# Altium integrated library LIS2DH12.IntLib: 1 symbol
Pins are listed as number, name and electrical type; pins without a type are passive.

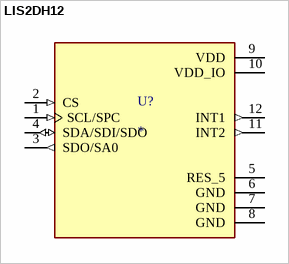
[diagram p0: symbol LIS2DH12]

## LIS2DH12
designator U?
Accelerometer X, Y, Z Axis Â±2g, 4g, 8g, 16g 0.5Hz ~ 672Hz 12-LGA (2x2); MF: STMicroelectronics; MP: LIS2DH12; Value: *; SnapEDA_Link: https://www.snapeda.com/parts/LIS2DH12/STMicroelectronics/view-part/?ref=snap; Check_prices: https://www.snapeda.com/parts/LIS2DH12/STMicroelectronics/view-part/?ref=eda; Purchase-URL: https://pricing.snapeda.com/search/part/LIS2DH12/?ref=eda; Availability: In Stock; Price: None; Package: LGA-12 STMicroelectronics
footprint SENSOR_LIS2DH12
pins: 1 SCL/SPC (in), 2 CS (in), 3 SDO/SA0 (out), 4 SDA/SDI/SDO (io), 5 RES_5 (power), 6 GND (power), 7 GND (power), 8 GND (power), 9 VDD (power), 10 VDD_IO (power), 11 INT2 (out), 12 INT1 (out)